# Altium footprint library ozge_er..PcbLib: 37 footprints (part 1 of 3)
Each footprint in its own frame and in the unit in brackets; x right, y up, seen from the top. Pads: shape width x height; smd on the part's side, far side on the other; paste and mask are expansions set on the pad; w line width, h text height; cw(c..) or ccw(c..) is an arc to the next point about the centre after c.
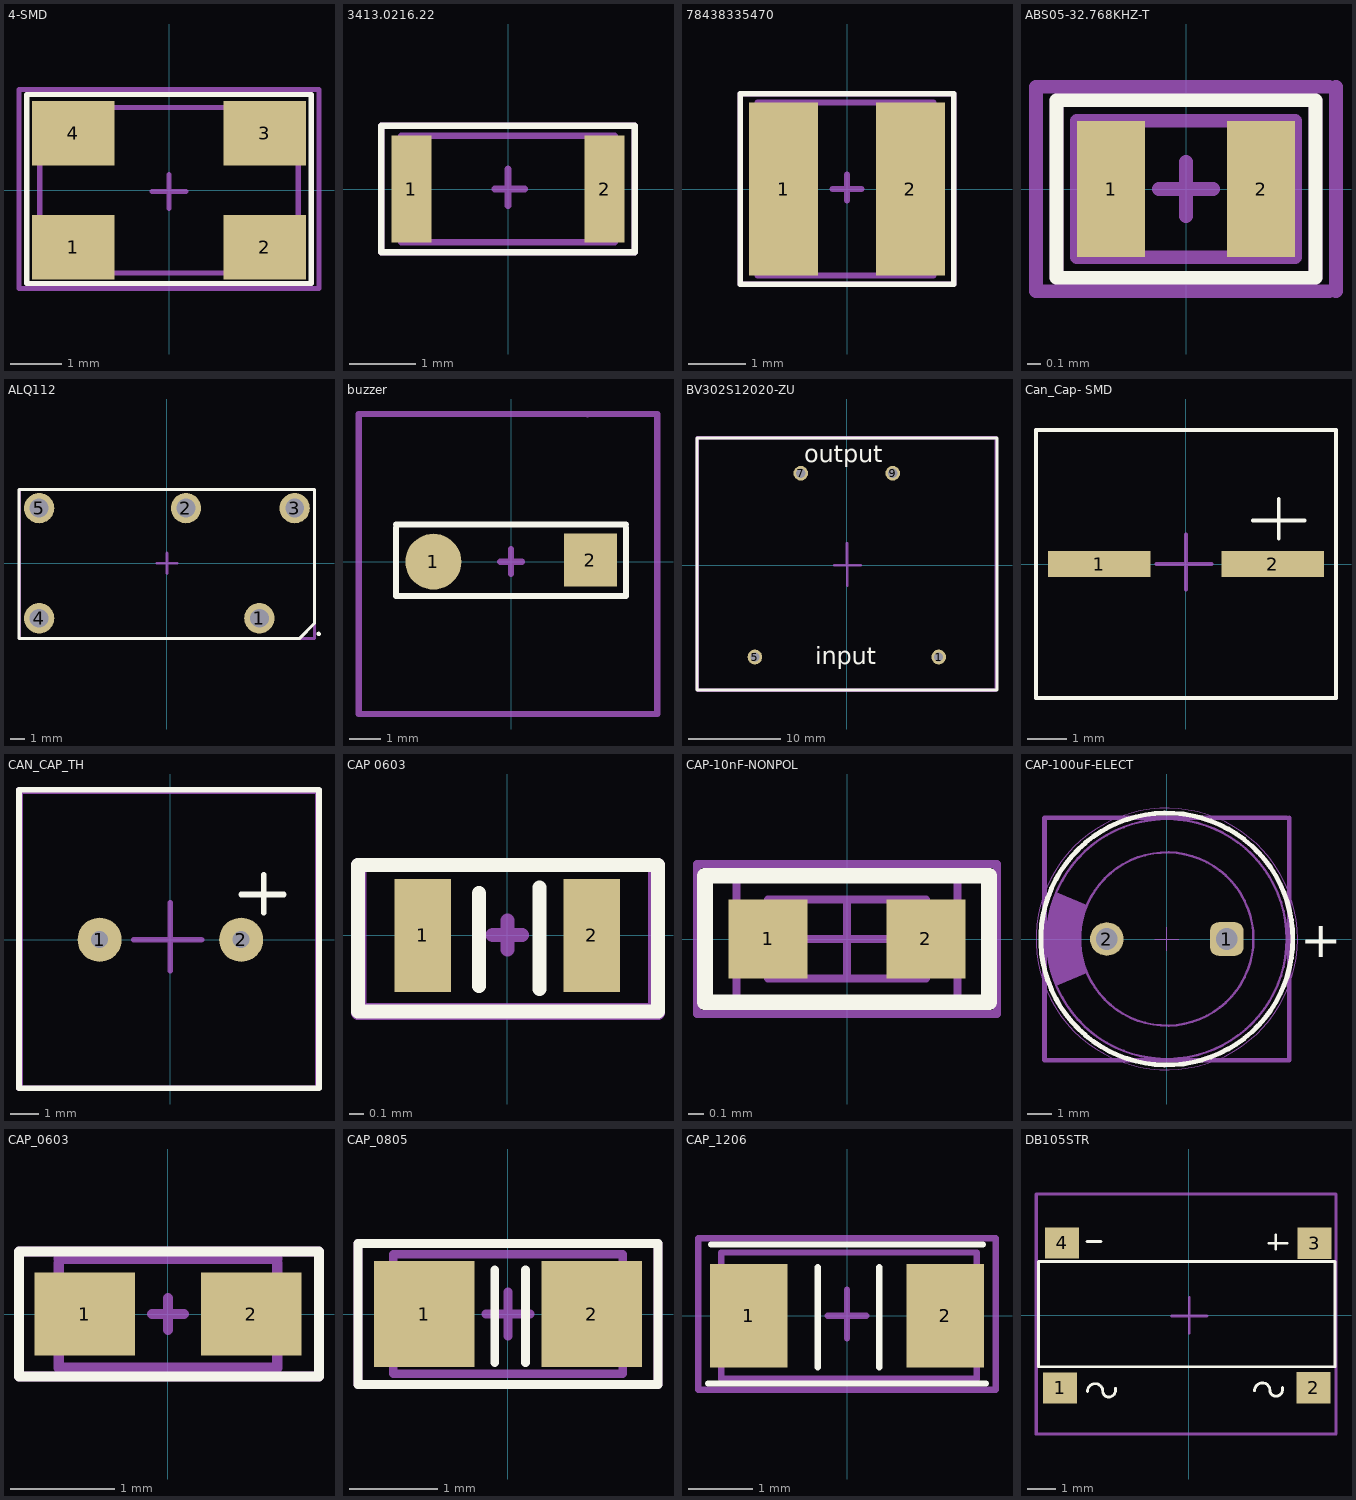
[diagram p0: the footprints below, top view; thin cyan lines are the x and y axes]

## 4-SMD [mm] "OSILATOR"
pads (4):
  rect 1.6x1.25 smd: 1(-1.85,-1.1) 2(1.85,-1.1) 3(1.85,1.1) 4(-1.85,1.1)
Top Overlay:
  lines w0.1: -2.75,-1.8 2.75,-1.8 2.75,1.85 -2.75,1.85 -2.75,-1.8
Top 3D Body:
  lines w0.1: -2.5,-1.6 2.5,-1.6 2.5,1.6 -2.5,1.6 -2.5,-1.6
Top Component Center:
  lines w0.1: -0.325,-0.025 0.325,-0.025 ; 0,-0.35 0,0.3 0,0 ; -2.9,-1.9 2.9,-1.9 2.9,1.95 2.8,1.95 -2.9,1.95 -2.9,-1.9
Top Designator:
  lines w0.1: -2.9,-1.9 -2.9,1.95 2.85,1.95 2.9,1.95 2.9,-1.9 -2.9,-1.9
  text ".Designator" at -2.65,-1 h1.1
3D body "ECS-160-20-30B-TR.STEP": height 0.85, standoff 0, extent -2.5,-1.6 2.5,1.6

## 3413.0216.22 [mm] "FUSE"
pads (2):
  rect 0.6x1.6 smd: 1(-1.45,0) 2(1.45,0)
Top Overlay:
  lines w0.1: -1.9,-0.95 1.9,-0.95 1.9,0.95 1.85,0.95 -1.9,0.95 -1.9,-0.95
Top 3D Body:
  lines w0.1: -1.6,-0.8 1.6,-0.8 1.6,0.8 -1.6,0.8 -1.6,-0.8
Top Component Center:
  lines w0.1: -0.2,0 0.25,0 0,0 0,-0.25 0,0.3 ; -1.9,-0.95 1.9,-0.95 1.9,0.95 -1.9,0.95 -1.9,-0.95
Top Designator:
  lines w0.1: -1.9,-0.95 1.9,-0.95 1.9,0.95 -1.9,0.95 -1.9,-0.95
  text ".Designator" at -1.7,-0.35 h0.5
3D body "FUS1206_24N_SCH.step": height 0.61, standoff 0, extent -1.6,-0.8 1.6,0.8

## 78438335470 [mm] "INDUCTOR"
pads (2):
  rect 1.2x3 smd: 1(-1.1,0) 2(1.1,0)
Top Overlay:
  lines w0.1: -1.85,-1.65 -1.85,1.65 1.85,1.65 1.85,-1.65 -1.85,-1.65
Top 3D Body:
  lines w0.1: -1.55,-1.5 1.5,-1.5 1.5,1.5 -1.55,1.5 -1.55,-1.5
Top Component Center:
  lines w0.1: -0.25,0 0.25,0 ; 0,-0.2 0,0.25 0,0 ; 1.85,-1.65 -1.85,-1.65 -1.85,1.65 1.85,1.65 1.85,-1.6
Top Designator:
  lines w0.1: -1.85,-1.65 1.85,-1.65 1.85,1.65 -1.85,1.65 -1.85,-1.65
  text ".Designator" at -1.65,-0.35 h0.5
3D body "78438335010_Download_STP_WE-MAIA-3015_rev1.stp": height 1.2, standoff 0, extent -1.5,-1.5 1.5,1.5

## ABS05-32.768KHZ-T [mm] "cyristal"
pads (2):
  rect 0.5x1 smd: 1(-0.55,0) 2(0.55,0)
Top Overlay:
  lines w0.1: -0.95,-0.65 -0.95,0.65 -0.9,0.65 0.9,0.65 0.95,0.65 0.95,-0.65 -0.95,-0.65
Top 3D Body:
  lines w0.1: -0.8,-0.5 -0.8,0.5 0.8,0.5 0.8,-0.5 -0.8,-0.5
Top Component Center:
  lines w0.1: -0.2,0 0.2,0 ; 0,-0.2 0,0.2 0,0 ; 1.05,-0.75 -1.1,-0.75 -1.1,0.75 1.05,0.75 ; 1.1,-0.75 1.1,-0.375 1.1,0.375 1.1,0.75
Top Designator:
  lines w0.1: -0.95,-0.65 -0.95,0.65 0.95,0.65 0.95,-0.65 -0.95,-0.65
  text ".Designator" at -0.85,-0.25 h0.5
3D body "ABS05-32.768KHZ-T.STEP": height 0.48, standoff -0.02, extent -0.8,-0.5 0.8,0.5

## ALQ112 [mm] "RELAY-ROLE"
pads (5):
  round 2.1 hole 1.3: 1(6.4,-3.81) 2(1.32,3.81) 3(8.84,3.81) 4(-8.84,-3.81) 5(-8.84,3.81)
Top Overlay:
  circle w0.254: c10.5,-4.89 r0.022
  lines w0.2: -10.23,5.11 10.22,5.11 10.22,-4.16 9.16,-5.22 -10.16,-5.22 -10.22,-5.22 -10.22,5.11 -10.23,5.11
Top Component Center:
  lines w0.2: -0.7,0 0.7,0 ; 0,0 0,-0.7 0,0.7 ; 9.4,-5.2 10.2,-5.2 10.2,-4.4 10.2,5.1 -10.2,5.1 -10.2,2.575 -10.2,-2.575 -10.2,-5.2 9.8,-5.2
Top Designator:
  lines w0.2: -10.2,-5.2 9.4,-5.2 10.2,-5.2 10.2,-4.4 10.2,5.1 -10.2,5.1 -10.2,2.575 -10.2,-2.575 -10.2,-5.2
  text ".Designator" at -6.3,0.8 h1.52
3D body: height 10.16, standoff 0, extent -9.95,-5.08 10.05,4.92
3D body: height 4.2, standoff -3.75, extent 6.01,-4.04 6.81,-3.74
3D body: height 4.2, standoff -3.75, extent 8.41,3.76 9.21,4.06
3D body: height 4.2, standoff 0, extent -7.04,4.51 -7.04,4.51
3D body: height 4.2, standoff -3.75, extent 0.91,3.71 1.71,4.01
3D body: height 0.45, standoff -3.75, extent -9.238,-4.209 -8.442,-3.411
3D body: height 0.45, standoff -3.75, extent -9.238,3.411 -8.442,4.209
3D body: height 4.6, standoff -4.6, extent -8.84,3.81 -8.84,3.81

## buzzer [mm] "buzzer"
pads (2):
  round 1.8 smd: 1(-2.5,0)
  rect 1.7x1.7 smd: 2(2.55,0.05)
Top Overlay:
  lines w0.2: -3.7,1.1 -3.7,-1.1 3.7,-1.1 3.7,1.1 ; -3.7,1.2 -1.85,1.2 1.85,1.2 3.7,1.2
Top Component Center:
  lines w0.2: -4.9,4.75 -4.9,2.388 -4.9,-2.338 -4.9,-4.85 -4.85,-4.9 -2.462,-4.9 2.312,-4.9 4.7,-4.9 4.7,-2.575 4.7,2.275 4.7,4.7 ; -4.85,4.75 -2.312,4.75 2.45,4.75 2.456,4.744 ; -0.35,0 0.35,0 0,0 ; 2.312,4.75 2.909,4.75 4.103,4.75 4.7,4.75 ; 0,0 0,-0.4 0,0.4 0,0
Top Designator:
  lines w0.2: -4.9,-4.9 -4.9,4.75 4.7,4.75 4.7,-4.9 -4.9,-4.9
  text ".Designator" at -4.5,1.9 h1.52
3D body "BUZZER.step": height 6, standoff -4.5, extent -4.71,-4.7 4.51,4.5

## BV302S12020-ZU [mm] "TRAFO-SINGLE OUTPUT"
pads (4):
  round 1.6 hole 1: 1(10,-10) 5(-10,-10) 7(-5,10) 9(5,10)
Top Overlay:
  lines w0.3: -16.3,-13.6 16.35,-13.6 16.35,13.85 16.2,13.85 -16.3,13.85 -16.3,-13.6
  text "input" at -3.45,-10.8 h1.9
  text "output" at -4.65,11.2 h1.9
Top 3D Body:
  lines w0.3: -16.25,-13.65 16.25,-13.65 16.25,13.85 -16.25,13.85 -16.25,-13.65
Top Component Center:
  lines w0.3: -1.35,0 1.5,0 0,0 0,2.35 0.05,2.35 0.05,-2.25 ; -16.25,-13.65 16.25,-13.65 16.25,13.85 16.2,13.85 -16.25,13.85 -16.25,-13.65
Top Designator:
  lines w0.3: -16.3,-13.6 -16.3,13.9 16.15,13.9 16.3,13.9 16.3,-13.6 -16.3,-13.6
  text ".Designator" at -15,3.15 h4
3D body "User Library-Hahn BV EI 302 2902.step": height 21.8, standoff -4.5, extent -16.25,-13.65 16.25,13.85

## Can_Cap- SMD [mm] "CAPACITOR"
pads (2):
  rect 2.6x0.65 smd: 1(-2.2,0) 2(2.2,0)
Top Overlay:
  lines w0.1: 1.7,1.1 3,1.1 ; 2.35,0.65 2.35,1.65 ; -3.8,-3.4 3.8,-3.4 3.8,3.4 -3.8,3.4 -3.8,-3.4
Top 3D Body:
  lines w0.1: -3.8,-3.4 3.8,-3.4 3.8,3.4 -3.8,3.4 -3.8,-3.4
Top Component Center:
  lines w0.1: -0.75,0 0.65,0 ; 0,-0.65 0,0.75 0,0 ; -3.8,-3.4 3.8,-3.4 3.8,3.4 -3.8,3.4 -3.8,-3.4
Top Designator:
  lines w0.1: -3.8,-3.4 3.8,-3.4 3.8,3.4 -3.8,3.4 -3.8,-3.4
  text ".Designator" at -3.55,-1.65 h1.1
3D body "EEV686M035A9HAA.step": height 7.71, standoff -0.3, extent -3.8,-3.4 3.8,3.4

## CAN_CAP_TH [mm]
pads (2):
  round 1.56 hole 0.6: 1(-2.5,0) 2(2.5,0)
Top Overlay:
  lines w0.2: 2.5,1.6 4,1.6 ; 3.3,0.95 3.3,2.3 ; 5.2,5.3 -5.35,5.3 -5.35,-5.25 5.25,-5.25 5.25,5.3
Top 3D Body:
  lines w0.2: -5.3,-5.25 5.2,-5.25 5.2,5.25 -5.3,5.25 -5.3,-5.25
Top Component Center:
  lines w0.2: -1.3,0 1.1,0 ; 0,-1.1 0,1.3 0,0 ; -5.35,-5.25 5.2,-5.25 5.2,5.25 -5.35,5.25 -5.35,-5.25
Top Designator:
  lines w0.2: -5.35,-5.25 5.2,-5.25 5.2,5.3 5.15,5.3 -5.35,5.3 -5.35,-5.25
  text ".Designator" at -5,-2.6 h1.1
3D body "ESH477M050AH4AA.step": height 23, standoff -19, extent -5.3,-5.25 5.2,5.25

## CAP 0603 [mm] "CAP"
pads (2):
  rect 0.4x0.8 smd: 1(-0.6,0) 2(0.6,0)
Top Overlay:
  lines w0.1: -0.2,-0.36 -0.2,0.3 ; 0.23,-0.38 0.23,0.34 ; -1.06,-0.54 -1.06,0.5 1.07,0.5 1.07,-0.54 -1.06,-0.54
Top 3D Body:
  lines w0.1: -1.05,-0.529 -1.05,0.5 1.05,0.5 1.05,-0.529 -1.05,-0.529
Top Component Center:
  lines w0.1: -0.103,0.003 0.103,0.003 ; 0,-0.1 0,0.106 ; -1.05,-0.55 -1.05,0.5 1.05,0.5 1.05,-0.55 -1.05,-0.55
Top Designator:
  lines w0.1: 1.04,0.5 -1.06,0.5 -1.06,-0.55 1.07,-0.55 1.07,0.5
  text ".Designator" at -0.92,-0.32 h0.5
3D body "CAPC0603.STEP": height 0.78, standoff -0.02, extent -1.05,-0.529 1.05,0.5

## CAP-10nF-NONPOL [mm]
pads (2):
  rect 0.5x0.5 smd: 1(-0.5,0) 2(0.5,0)
Top Overlay:
  lines w0.1: -0.9,-0.4 -0.9,0.4 0.9,0.4 0.9,-0.4 -0.9,-0.4
Mechanical 11:
  lines w0.05: -0.7,-0.4 -0.7,0.4 0.7,0.4 0.7,-0.4 -0.7,-0.4
  text ".Designator" at -0.58,-0.25 h0.5
Mechanical 13:
  lines w0.05: -0.5,-0.25 0.5,-0.25 0.5,0.25 -0.5,0.25 -0.5,-0.25
Mechanical 15:
  lines w0.05: -0.25,0 0.25,0 ; 0,-0.25 0,0.25 ; -0.95,-0.475 -0.95,0.475 0.95,0.475 0.95,-0.475 -0.95,-0.475
3D body "1x0.5x0.5x0.25.stp": height 0.5, standoff 0, extent -0.5,-0.25 0.5,0.25

## CAP-100uF-ELECT [mm]
pads (2):
  rrect50% 1.4x1.4 hole 0.9: 1(2.5,0)
  round 1.4 hole 0.9: 2(-2.5,0)
Top Overlay:
  circle w0.2: c0,0 r5.25
  text "+" at 5.55,-0.75 h1.5
Top 3D Body:
  lines w0.2: 5,5.05 -5.1,5.05 -5.1,-5.05 5.1,-5.05 5.1,5.05
Mechanical 11:
  circle w0.1: c0,0 r3.61
  circle w0.1: c0,0 r5
  region: -4.607,-1.944 -3.323,-1.41 -3.324,-1.409 -3.39,-1.24 -3.497,-0.895 -3.569,-0.541 -3.605,-0.181 -3.605,0.181 -3.569,0.541 -3.497,0.895 -3.39,1.24 -3.324,1.409 -3.323,1.41 -4.607,1.944 -4.704,1.714 -4.851,1.237 -4.95,0.747 -5,0.25 -5,-0.25 -4.95,-0.747 -4.851,-1.237 -4.704,-1.714
  text ".Designator" at -2.5,-0.75 h1.5
Mechanical 15:
  circle w0.05: c0,0 r5.45
  lines w0.05: -0.5,0 0.5,0 ; 0,-0.5 0,0.5
3D body "10x12.5x5x0.6.stp": height 12.81, standoff -19.91, extent -4.99,-5 5,5

## CAP_0603 [mm]
pads (2):
  rect 0.965x0.8 smd: 1(-0.8,0) 2(0.8,0)
Top Overlay:
  lines w0.1: -1.43,-0.6 -1.43,0.6 1.45,0.6 1.45,0.3 1.45,-0.3 1.45,-0.6 -1.43,-0.6
Top 3D Body:
  lines w0.1: -1.05,-0.514 -0.494,-0.514 0.494,-0.514 1.051,-0.514 ; -1.05,-0.49 -1.05,-0.245 -1.05,0.245 -1.05,0.49 ; -1.05,0.529 -0.525,0.529 0.526,0.529 1.051,0.529 ; 1.051,-0.49 1.051,-0.245 1.051,0.245 1.051,0.49
Top Component Center:
  lines w0.1: -0.15,0 0,0 ; 0,-0.15 0,0 ; 0,0.15 0,0 ; 0.15,0 0,0 ; -1.43,-0.6 1.45,-0.6 1.45,-0.3 1.45,0.3 1.45,0.6 -1.43,0.6 -1.43,-0.6
Top Designator:
  lines w0.1: -1.43,-0.6 1.45,-0.6 1.45,-0.3 1.45,0.3 1.45,0.6 -1.43,0.6 -1.43,-0.6
  text ".Designator" at -0.95,-0.3 h0.5
3D body "CAPC0603.STEP": height 0.8, standoff 0, extent -1.05,-0.514 1.051,0.514

## CAP_0805 [mm]
pads (2):
  rect 1.14x1.2 smd: 1(-0.95,0) 2(0.95,0)
Top Overlay:
  lines w0.1: -0.15,-0.55 -0.15,0.5 ; 0.2,-0.55 0.2,0.5 ; -1.7,-0.8 1.7,-0.8 1.7,0.8 1.55,0.8 -1.7,0.8 -1.7,-0.8
Top 3D Body:
  lines w0.1: -1.301,-0.678 1.301,-0.678 1.301,0.678 -1.301,0.678 -1.301,-0.678
Top Component Center:
  lines w0.1: -0.25,0 0.25,0 ; 0,-0.25 0,0.25 0,0 ; -1.7,-0.8 -1.7,0.8 1.7,0.8 1.7,-0.8 -1.7,-0.8
Top Designator:
  lines w0.1: -1.7,-0.8 1.7,-0.8 1.7,0.8 -1.7,0.8 -1.7,-0.8
  text ".Designator" at -1.55,-0.3 h0.5
3D body "CAPC0805.STEP": height 0.9, standoff 0, extent -1.301,-0.678 1.301,0.678

## CAP_1206 [mm]
pads (2):
  rect 1.2x1.6 smd: 1(-1.52,0) 2(1.52,0)
Top Overlay:
  lines w0.1: -2.15,-1.05 2.15,-1.05 ; -2.1,1.1 2.1,1.1 ; -0.45,-0.8 -0.45,0.75 ; 0.5,-0.8 0.5,0.75
Top 3D Body:
  lines w0.1: -1.945,-0.976 -1.945,0.976 2.005,0.976 2.005,-0.976 -1.945,-0.976
Top Component Center:
  lines w0.1: -0.3,0 0.3,0 ; 0,-0.35 0,0.4 0,0 ; -2.3,-1.15 -2.3,1.2 2.2,1.2 2.3,1.2 2.3,-1.15 -2.3,-1.15
Top Designator:
  lines w0.1: -2.3,-1.15 -2.3,1.2 2.3,1.2 2.3,-1.15 -2.3,-1.15
  text ".Designator" at -2.15,-0.3 h0.5
3D body "CAPC1206.STEP": height 1.3, standoff -0.01, extent -1.945,-0.976 2.005,0.976

## DB105STR [mm] "bridge"
pads (4):
  rect 1.2x1.1 smd: 1(-4.53,-2.56) 2(4.405,-2.55) 3(4.435,2.54) 4(-4.46,2.55)
Top Overlay:
  lines w0.1: -3.58,2.6 -3.09,2.6 ; -3.57,-2.69 cw(c-3.29,-2.69) -3.29,-2.41 cw(c-3.29,-2.67) -3.03,-2.67 ccw(c-2.82,-2.67) -2.82,-2.88 ccw(c-2.82,-2.64) -2.58,-2.64 -2.58,-2.57 ; 2.32,-2.66 cw(c2.6,-2.66) 2.6,-2.38 cw(c2.6,-2.64) 2.86,-2.64 ccw(c3.07,-2.64) 3.07,-2.85 ccw(c3.07,-2.61) 3.31,-2.61 3.31,-2.54 ; 2.82,2.54 3.47,2.54 ; 3.07,2.33 3.07,2.83 ; 5.13,1.9 -5.29,1.9 -5.29,-1.81 5.15,-1.81 5.15,1.9
Top Component Center:
  lines w0.1: -5.38,-4.19 -5.38,-2.075 -5.38,2.155 -5.38,4.27 ; -5.37,-4.17 ccw(c-5.35,-4.17) -5.35,-4.19 ; -5.34,-4.19 5.17,-4.19 ccw(c5.17,-4.17) 5.19,-4.17 5.18,4.27 -5.34,4.27 ; -0.61,-0.03 0.64,-0.03 ; 0.02,-0.62 0.02,0.63
Top Designator:
  lines w0.1: 5.162,4.282 5.165,4.28 2.609,4.28 -2.634,4.28 -5.365,4.28 -5.365,2.179 -5.365,-2.054 -5.365,-4.18 -2.785,-4.18 2.455,-4.18 5.19,-4.18 ; 5.185,-4.16 5.185,-2.11 5.185,2.05 5.185,2.606 5.185,3.719 5.185,4.275
  text ".Designator" at -4.75,0.37 h1.2
3D body "User Library-DB107S  DB-S.STEP": height 2.66, standoff 0, extent -5.28,-4.13 5.12,4.19